# Altium footprint library BGA (1.5mm Pitch, Square4).PcbLib: 12 footprints (part 4 of 4)
Each footprint in its own frame and in the unit in brackets; x right, y up, seen from the top. Pads: shape width x height; smd on the part's side, far side on the other; paste and mask are expansions set on the pad; w line width, h text height; cw(c..) or ccw(c..) is an arc to the next point about the centre after c.
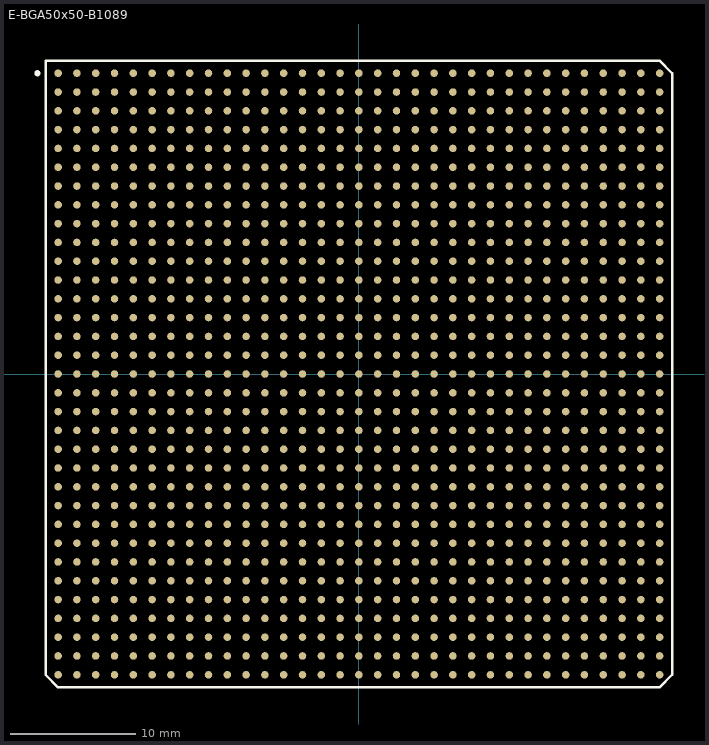
[diagram p3: the footprint, top view; thin cyan lines are the x and y axes]

## E-BGA50x50-B1089 [mm] "BGA; 1089 Balls; Body 50 x 50 mm; Pitch 1.5 mm"
height 3.5
pads (1089):
  round 0.6 smd: A1(-24,24) A2(-22.5,24) A3(-21,24) A4(-19.5,24) A5(-18,24) A6(-16.5,24) A7(-15,24) A8(-13.5,24) A9(-12,24) A10(-10.5,24) A11(-9,24) A12(-7.5,24) A13(-6,24) A14(-4.5,24) A15(-3,24) A16(-1.5,24) A17(0,24) A18(1.5,24) A19(3,24) A20(4.5,24) A21(6,24) A22(7.5,24) A23(9,24) A24(10.5,24) A25(12,24) A26(13.5,24) A27(15,24) A28(16.5,24) A29(18,24) A30(19.5,24) A31(21,24) A32(22.5,24) A33(24,24) AA1(-24,-6) AA2(-22.5,-6) AA3(-21,-6) AA4(-19.5,-6) AA5(-18,-6) AA6(-16.5,-6) AA7(-15,-6) AA8(-13.5,-6) AA9(-12,-6) AA10(-10.5,-6) AA11(-9,-6) AA12(-7.5,-6) AA13(-6,-6) AA14(-4.5,-6) AA15(-3,-6) AA16(-1.5,-6) AA17(0,-6) AA18(1.5,-6) AA19(3,-6) AA20(4.5,-6) AA21(6,-6) AA22(7.5,-6) AA23(9,-6) AA24(10.5,-6) AA25(12,-6) AA26(13.5,-6) AA27(15,-6) AA28(16.5,-6) AA29(18,-6) AA30(19.5,-6) AA31(21,-6) AA32(22.5,-6) AA33(24,-6) AB1(-24,-7.5) AB2(-22.5,-7.5) AB3(-21,-7.5) AB4(-19.5,-7.5) AB5(-18,-7.5) AB6(-16.5,-7.5) AB7(-15,-7.5) AB8(-13.5,-7.5) AB9(-12,-7.5) AB10(-10.5,-7.5) AB11(-9,-7.5) AB12(-7.5,-7.5) AB13(-6,-7.5) AB14(-4.5,-7.5) AB15(-3,-7.5) AB16(-1.5,-7.5) AB17(0,-7.5) AB18(1.5,-7.5) AB19(3,-7.5) AB20(4.5,-7.5) AB21(6,-7.5) AB22(7.5,-7.5) AB23(9,-7.5) AB24(10.5,-7.5) AB25(12,-7.5) AB26(13.5,-7.5) AB27(15,-7.5) AB28(16.5,-7.5) AB29(18,-7.5) AB30(19.5,-7.5) AB31(21,-7.5) AB32(22.5,-7.5) AB33(24,-7.5) AC1(-24,-9) AC2(-22.5,-9) AC3(-21,-9) AC4(-19.5,-9) AC5(-18,-9) AC6(-16.5,-9) AC7(-15,-9) AC8(-13.5,-9) AC9(-12,-9) AC10(-10.5,-9) AC11(-9,-9) AC12(-7.5,-9) AC13(-6,-9) AC14(-4.5,-9) AC15(-3,-9) AC16(-1.5,-9) AC17(0,-9) AC18(1.5,-9) AC19(3,-9) AC20(4.5,-9) AC21(6,-9) AC22(7.5,-9) AC23(9,-9) AC24(10.5,-9) AC25(12,-9) AC26(13.5,-9) AC27(15,-9) AC28(16.5,-9) AC29(18,-9) AC30(19.5,-9) AC31(21,-9) AC32(22.5,-9) AC33(24,-9) AD1(-24,-10.5) AD2(-22.5,-10.5) AD3(-21,-10.5) AD4(-19.5,-10.5) AD5(-18,-10.5) AD6(-16.5,-10.5) AD7(-15,-10.5) AD8(-13.5,-10.5) AD9(-12,-10.5) AD10(-10.5,-10.5) AD11(-9,-10.5) AD12(-7.5,-10.5) AD13(-6,-10.5) AD14(-4.5,-10.5) AD15(-3,-10.5) AD16(-1.5,-10.5) AD17(0,-10.5) AD18(1.5,-10.5) AD19(3,-10.5) AD20(4.5,-10.5) AD21(6,-10.5) AD22(7.5,-10.5) AD23(9,-10.5) AD24(10.5,-10.5) AD25(12,-10.5) AD26(13.5,-10.5) AD27(15,-10.5) AD28(16.5,-10.5) AD29(18,-10.5) AD30(19.5,-10.5) AD31(21,-10.5) AD32(22.5,-10.5) AD33(24,-10.5) AE1(-24,-12) AE2(-22.5,-12) AE3(-21,-12) AE4(-19.5,-12) AE5(-18,-12) AE6(-16.5,-12) AE7(-15,-12) AE8(-13.5,-12) AE9(-12,-12) AE10(-10.5,-12) AE11(-9,-12) AE12(-7.5,-12) AE13(-6,-12) AE14(-4.5,-12) AE15(-3,-12) AE16(-1.5,-12) AE17(0,-12) AE18(1.5,-12) AE19(3,-12) AE20(4.5,-12) AE21(6,-12) AE22(7.5,-12) AE23(9,-12) AE24(10.5,-12) AE25(12,-12) AE26(13.5,-12) AE27(15,-12) AE28(16.5,-12) AE29(18,-12) AE30(19.5,-12) AE31(21,-12) AE32(22.5,-12) AE33(24,-12) AF1(-24,-13.5) AF2(-22.5,-13.5) AF3(-21,-13.5) AF4(-19.5,-13.5) AF5(-18,-13.5) AF6(-16.5,-13.5) AF7(-15,-13.5) AF8(-13.5,-13.5) AF9(-12,-13.5) AF10(-10.5,-13.5) AF11(-9,-13.5) AF12(-7.5,-13.5) AF13(-6,-13.5) AF14(-4.5,-13.5) AF15(-3,-13.5) AF16(-1.5,-13.5) AF17(0,-13.5) AF18(1.5,-13.5) AF19(3,-13.5) AF20(4.5,-13.5) AF21(6,-13.5) AF22(7.5,-13.5) AF23(9,-13.5) AF24(10.5,-13.5) AF25(12,-13.5) AF26(13.5,-13.5) AF27(15,-13.5) AF28(16.5,-13.5) AF29(18,-13.5) AF30(19.5,-13.5) AF31(21,-13.5) AF32(22.5,-13.5) AF33(24,-13.5) AG1(-24,-15) AG2(-22.5,-15) AG3(-21,-15) AG4(-19.5,-15) AG5(-18,-15) AG6(-16.5,-15) AG7(-15,-15) AG8(-13.5,-15) AG9(-12,-15) AG10(-10.5,-15) AG11(-9,-15) AG12(-7.5,-15) AG13(-6,-15) AG14(-4.5,-15) AG15(-3,-15) AG16(-1.5,-15) AG17(0,-15) AG18(1.5,-15) AG19(3,-15) AG20(4.5,-15) AG21(6,-15) AG22(7.5,-15) AG23(9,-15) AG24(10.5,-15) AG25(12,-15) AG26(13.5,-15) AG27(15,-15) AG28(16.5,-15) AG29(18,-15) AG30(19.5,-15) AG31(21,-15) AG32(22.5,-15) AG33(24,-15) AH1(-24,-16.5) AH2(-22.5,-16.5) AH3(-21,-16.5) AH4(-19.5,-16.5) AH5(-18,-16.5) AH6(-16.5,-16.5) AH7(-15,-16.5) AH8(-13.5,-16.5) AH9(-12,-16.5) AH10(-10.5,-16.5) AH11(-9,-16.5) AH12(-7.5,-16.5) AH13(-6,-16.5) AH14(-4.5,-16.5) AH15(-3,-16.5) AH16(-1.5,-16.5) AH17(0,-16.5) AH18(1.5,-16.5) AH19(3,-16.5) AH20(4.5,-16.5) AH21(6,-16.5) AH22(7.5,-16.5) AH23(9,-16.5) AH24(10.5,-16.5) AH25(12,-16.5) AH26(13.5,-16.5) AH27(15,-16.5) AH28(16.5,-16.5) AH29(18,-16.5) AH30(19.5,-16.5) AH31(21,-16.5) AH32(22.5,-16.5) AH33(24,-16.5) AJ1(-24,-18) AJ2(-22.5,-18) AJ3(-21,-18) AJ4(-19.5,-18) AJ5(-18,-18) AJ6(-16.5,-18) AJ7(-15,-18) AJ8(-13.5,-18) AJ9(-12,-18) AJ10(-10.5,-18) AJ11(-9,-18) AJ12(-7.5,-18) AJ13(-6,-18) AJ14(-4.5,-18) AJ15(-3,-18) AJ16(-1.5,-18) AJ17(0,-18) AJ18(1.5,-18) AJ19(3,-18) AJ20(4.5,-18) AJ21(6,-18) AJ22(7.5,-18) AJ23(9,-18) AJ24(10.5,-18) AJ25(12,-18) AJ26(13.5,-18) AJ27(15,-18) AJ28(16.5,-18) AJ29(18,-18) AJ30(19.5,-18) AJ31(21,-18) AJ32(22.5,-18) AJ33(24,-18) AK1(-24,-19.5) AK2(-22.5,-19.5) AK3(-21,-19.5) AK4(-19.5,-19.5) AK5(-18,-19.5) AK6(-16.5,-19.5) AK7(-15,-19.5) AK8(-13.5,-19.5) AK9(-12,-19.5) AK10(-10.5,-19.5) AK11(-9,-19.5) AK12(-7.5,-19.5) AK13(-6,-19.5) AK14(-4.5,-19.5) AK15(-3,-19.5) AK16(-1.5,-19.5) AK17(0,-19.5) AK18(1.5,-19.5) AK19(3,-19.5) AK20(4.5,-19.5) AK21(6,-19.5) AK22(7.5,-19.5) AK23(9,-19.5) AK24(10.5,-19.5) AK25(12,-19.5) AK26(13.5,-19.5) AK27(15,-19.5) AK28(16.5,-19.5) AK29(18,-19.5) AK30(19.5,-19.5) AK31(21,-19.5) AK32(22.5,-19.5) AK33(24,-19.5) AL1(-24,-21) AL2(-22.5,-21) AL3(-21,-21) AL4(-19.5,-21) AL5(-18,-21) AL6(-16.5,-21) AL7(-15,-21) AL8(-13.5,-21) AL9(-12,-21) AL10(-10.5,-21) AL11(-9,-21) AL12(-7.5,-21) AL13(-6,-21) AL14(-4.5,-21) AL15(-3,-21) AL16(-1.5,-21) AL17(0,-21) AL18(1.5,-21) AL19(3,-21) AL20(4.5,-21) AL21(6,-21) AL22(7.5,-21) AL23(9,-21) AL24(10.5,-21) AL25(12,-21) AL26(13.5,-21) AL27(15,-21) AL28(16.5,-21) AL29(18,-21) AL30(19.5,-21) AL31(21,-21) AL32(22.5,-21) AL33(24,-21) AM1(-24,-22.5) AM2(-22.5,-22.5) AM3(-21,-22.5) AM4(-19.5,-22.5) AM5(-18,-22.5) AM6(-16.5,-22.5) AM7(-15,-22.5) AM8(-13.5,-22.5) AM9(-12,-22.5) AM10(-10.5,-22.5) AM11(-9,-22.5) AM12(-7.5,-22.5) AM13(-6,-22.5) AM14(-4.5,-22.5) AM15(-3,-22.5) AM16(-1.5,-22.5) AM17(0,-22.5) AM18(1.5,-22.5) AM19(3,-22.5) AM20(4.5,-22.5) AM21(6,-22.5) AM22(7.5,-22.5) AM23(9,-22.5) AM24(10.5,-22.5) AM25(12,-22.5) AM26(13.5,-22.5) AM27(15,-22.5) AM28(16.5,-22.5) AM29(18,-22.5) AM30(19.5,-22.5) AM31(21,-22.5) AM32(22.5,-22.5) AM33(24,-22.5) AN1(-24,-24) AN2(-22.5,-24) AN3(-21,-24) AN4(-19.5,-24) AN5(-18,-24) AN6(-16.5,-24) AN7(-15,-24) AN8(-13.5,-24) AN9(-12,-24) AN10(-10.5,-24) AN11(-9,-24) AN12(-7.5,-24) AN13(-6,-24) AN14(-4.5,-24) AN15(-3,-24) AN16(-1.5,-24) AN17(0,-24) AN18(1.5,-24) AN19(3,-24) AN20(4.5,-24) AN21(6,-24) AN22(7.5,-24) AN23(9,-24) AN24(10.5,-24) AN25(12,-24) AN26(13.5,-24) AN27(15,-24) AN28(16.5,-24) AN29(18,-24) AN30(19.5,-24) AN31(21,-24) AN32(22.5,-24) AN33(24,-24) B1(-24,22.5) B2(-22.5,22.5) B3(-21,22.5) B4(-19.5,22.5) B5(-18,22.5) B6(-16.5,22.5) B7(-15,22.5) B8(-13.5,22.5) B9(-12,22.5) B10(-10.5,22.5) B11(-9,22.5) B12(-7.5,22.5) B13(-6,22.5) B14(-4.5,22.5) B15(-3,22.5) B16(-1.5,22.5) B17(0,22.5) B18(1.5,22.5) B19(3,22.5) B20(4.5,22.5) B21(6,22.5) B22(7.5,22.5) B23(9,22.5) B24(10.5,22.5) B25(12,22.5) B26(13.5,22.5) B27(15,22.5) B28(16.5,22.5) B29(18,22.5) B30(19.5,22.5) B31(21,22.5) B32(22.5,22.5) B33(24,22.5) C1(-24,21) C2(-22.5,21) C3(-21,21) C4(-19.5,21) C5(-18,21) C6(-16.5,21) C7(-15,21) C8(-13.5,21) C9(-12,21) C10(-10.5,21) C11(-9,21) C12(-7.5,21) C13(-6,21) C14(-4.5,21) C15(-3,21) C16(-1.5,21) C17(0,21) C18(1.5,21) C19(3,21) C20(4.5,21) C21(6,21) C22(7.5,21) C23(9,21) C24(10.5,21) C25(12,21) C26(13.5,21) C27(15,21) C28(16.5,21) C29(18,21) C30(19.5,21) C31(21,21) C32(22.5,21) C33(24,21) D1(-24,19.5) D2(-22.5,19.5) D3(-21,19.5) D4(-19.5,19.5) D5(-18,19.5) D6(-16.5,19.5) D7(-15,19.5) D8(-13.5,19.5) D9(-12,19.5) D10(-10.5,19.5) D11(-9,19.5) D12(-7.5,19.5) D13(-6,19.5) D14(-4.5,19.5) D15(-3,19.5) D16(-1.5,19.5) D17(0,19.5) D18(1.5,19.5) D19(3,19.5) D20(4.5,19.5) D21(6,19.5) D22(7.5,19.5) D23(9,19.5) D24(10.5,19.5) D25(12,19.5) D26(13.5,19.5) D27(15,19.5) D28(16.5,19.5) D29(18,19.5) D30(19.5,19.5) D31(21,19.5) D32(22.5,19.5) D33(24,19.5) E1(-24,18) E2(-22.5,18) E3(-21,18) E4(-19.5,18) E5(-18,18) E6(-16.5,18) E7(-15,18) E8(-13.5,18) E9(-12,18) E10(-10.5,18) E11(-9,18) E12(-7.5,18) E13(-6,18) E14(-4.5,18) E15(-3,18) E16(-1.5,18) E17(0,18) E18(1.5,18) E19(3,18) E20(4.5,18) E21(6,18) E22(7.5,18) E23(9,18) E24(10.5,18) E25(12,18) E26(13.5,18) E27(15,18) E28(16.5,18) E29(18,18) E30(19.5,18) E31(21,18) E32(22.5,18) E33(24,18) F1(-24,16.5) F2(-22.5,16.5) F3(-21,16.5) F4(-19.5,16.5) F5(-18,16.5) F6(-16.5,16.5) F7(-15,16.5) F8(-13.5,16.5) F9(-12,16.5) F10(-10.5,16.5) F11(-9,16.5) F12(-7.5,16.5) F13(-6,16.5) F14(-4.5,16.5) F15(-3,16.5) F16(-1.5,16.5) F17(0,16.5) F18(1.5,16.5) F19(3,16.5) F20(4.5,16.5) F21(6,16.5) F22(7.5,16.5) F23(9,16.5) F24(10.5,16.5) F25(12,16.5) F26(13.5,16.5) F27(15,16.5) F28(16.5,16.5) F29(18,16.5) F30(19.5,16.5) F31(21,16.5) F32(22.5,16.5) F33(24,16.5) G1(-24,15) G2(-22.5,15) G3(-21,15) G4(-19.5,15) G5(-18,15) G6(-16.5,15) G7(-15,15) G8(-13.5,15) G9(-12,15) G10(-10.5,15) G11(-9,15) G12(-7.5,15) G13(-6,15) G14(-4.5,15) G15(-3,15) G16(-1.5,15) G17(0,15) G18(1.5,15) G19(3,15) G20(4.5,15) G21(6,15) G22(7.5,15) G23(9,15) G24(10.5,15) G25(12,15) G26(13.5,15) G27(15,15) G28(16.5,15) G29(18,15) G30(19.5,15) G31(21,15) G32(22.5,15) G33(24,15) H1(-24,13.5) H2(-22.5,13.5) H3(-21,13.5) H4(-19.5,13.5) H5(-18,13.5) H6(-16.5,13.5) H7(-15,13.5) H8(-13.5,13.5) H9(-12,13.5) H10(-10.5,13.5) H11(-9,13.5) H12(-7.5,13.5) H13(-6,13.5) H14(-4.5,13.5) H15(-3,13.5) H16(-1.5,13.5) H17(0,13.5) H18(1.5,13.5) H19(3,13.5) H20(4.5,13.5) H21(6,13.5) H22(7.5,13.5) H23(9,13.5) H24(10.5,13.5) H25(12,13.5) H26(13.5,13.5) H27(15,13.5) H28(16.5,13.5) H29(18,13.5) H30(19.5,13.5) H31(21,13.5) H32(22.5,13.5) H33(24,13.5) J1(-24,12) J2(-22.5,12) J3(-21,12) J4(-19.5,12) J5(-18,12) J6(-16.5,12) J7(-15,12) J8(-13.5,12) J9(-12,12) J10(-10.5,12) J11(-9,12) J12(-7.5,12) J13(-6,12) J14(-4.5,12) J15(-3,12) J16(-1.5,12) J17(0,12) J18(1.5,12) J19(3,12) J20(4.5,12) J21(6,12) J22(7.5,12) J23(9,12) J24(10.5,12) J25(12,12) J26(13.5,12) J27(15,12) J28(16.5,12) J29(18,12) J30(19.5,12) J31(21,12) J32(22.5,12) J33(24,12) K1(-24,10.5) K2(-22.5,10.5) K3(-21,10.5) K4(-19.5,10.5) K5(-18,10.5) K6(-16.5,10.5) K7(-15,10.5) K8(-13.5,10.5) K9(-12,10.5) K10(-10.5,10.5) K11(-9,10.5) K12(-7.5,10.5) K13(-6,10.5) K14(-4.5,10.5) K15(-3,10.5) K16(-1.5,10.5) K17(0,10.5) K18(1.5,10.5) K19(3,10.5) K20(4.5,10.5) K21(6,10.5) K22(7.5,10.5) K23(9,10.5) K24(10.5,10.5) K25(12,10.5) K26(13.5,10.5) K27(15,10.5) K28(16.5,10.5) K29(18,10.5) K30(19.5,10.5) K31(21,10.5) K32(22.5,10.5) K33(24,10.5) L1(-24,9) L2(-22.5,9) L3(-21,9) L4(-19.5,9) L5(-18,9) L6(-16.5,9) L7(-15,9) L8(-13.5,9) L9(-12,9) L10(-10.5,9) L11(-9,9) L12(-7.5,9) L13(-6,9) L14(-4.5,9) L15(-3,9) L16(-1.5,9) L17(0,9) L18(1.5,9) L19(3,9) L20(4.5,9) L21(6,9) L22(7.5,9) L23(9,9) L24(10.5,9) L25(12,9) L26(13.5,9) L27(15,9) L28(16.5,9) L29(18,9) L30(19.5,9) L31(21,9) L32(22.5,9) L33(24,9) M1(-24,7.5) M2(-22.5,7.5) M3(-21,7.5) M4(-19.5,7.5) M5(-18,7.5) M6(-16.5,7.5) M7(-15,7.5) M8(-13.5,7.5) M9(-12,7.5) M10(-10.5,7.5) M11(-9,7.5) M12(-7.5,7.5) M13(-6,7.5) M14(-4.5,7.5) M15(-3,7.5) M16(-1.5,7.5) M17(0,7.5) M18(1.5,7.5) M19(3,7.5) M20(4.5,7.5) M21(6,7.5) M22(7.5,7.5) M23(9,7.5) M24(10.5,7.5) M25(12,7.5) M26(13.5,7.5) M27(15,7.5) M28(16.5,7.5) M29(18,7.5) M30(19.5,7.5) M31(21,7.5) M32(22.5,7.5) M33(24,7.5) N1(-24,6) N2(-22.5,6) N3(-21,6) N4(-19.5,6) N5(-18,6) N6(-16.5,6) N7(-15,6) N8(-13.5,6) N9(-12,6) N10(-10.5,6) N11(-9,6) N12(-7.5,6) N13(-6,6) N14(-4.5,6) N15(-3,6) N16(-1.5,6) N17(0,6) N18(1.5,6) N19(3,6) N20(4.5,6) N21(6,6) N22(7.5,6) N23(9,6) N24(10.5,6) N25(12,6) N26(13.5,6) N27(15,6) N28(16.5,6) N29(18,6) N30(19.5,6) N31(21,6) N32(22.5,6) N33(24,6) P1(-24,4.5) P2(-22.5,4.5) P3(-21,4.5) P4(-19.5,4.5) P5(-18,4.5) P6(-16.5,4.5) P7(-15,4.5) P8(-13.5,4.5) P9(-12,4.5) P10(-10.5,4.5) P11(-9,4.5) P12(-7.5,4.5) P13(-6,4.5) P14(-4.5,4.5) P15(-3,4.5) P16(-1.5,4.5) P17(0,4.5) P18(1.5,4.5) P19(3,4.5) P20(4.5,4.5) P21(6,4.5) P22(7.5,4.5) P23(9,4.5) P24(10.5,4.5) P25(12,4.5) P26(13.5,4.5) P27(15,4.5) P28(16.5,4.5) P29(18,4.5) P30(19.5,4.5) P31(21,4.5) P32(22.5,4.5) P33(24,4.5) R1(-24,3) R2(-22.5,3) R3(-21,3) R4(-19.5,3) R5(-18,3) R6(-16.5,3) R7(-15,3) R8(-13.5,3) R9(-12,3) R10(-10.5,3) R11(-9,3) R12(-7.5,3) R13(-6,3) R14(-4.5,3) R15(-3,3) R16(-1.5,3) R17(0,3) R18(1.5,3) R19(3,3) R20(4.5,3) R21(6,3) R22(7.5,3) R23(9,3) R24(10.5,3) R25(12,3) R26(13.5,3) R27(15,3) R28(16.5,3) R29(18,3) R30(19.5,3) R31(21,3) R32(22.5,3) R33(24,3) T1(-24,1.5) T2(-22.5,1.5) T3(-21,1.5) T4(-19.5,1.5) T5(-18,1.5) T6(-16.5,1.5) T7(-15,1.5) T8(-13.5,1.5) T9(-12,1.5) T10(-10.5,1.5) T11(-9,1.5) T12(-7.5,1.5) T13(-6,1.5) T14(-4.5,1.5) T15(-3,1.5) T16(-1.5,1.5) T17(0,1.5) T18(1.5,1.5) T19(3,1.5) T20(4.5,1.5) T21(6,1.5) T22(7.5,1.5) T23(9,1.5) T24(10.5,1.5) T25(12,1.5) T26(13.5,1.5) T27(15,1.5) T28(16.5,1.5) T29(18,1.5) T30(19.5,1.5) T31(21,1.5) T32(22.5,1.5) T33(24,1.5) U1(-24,0) U2(-22.5,0) U3(-21,0) U4(-19.5,0) U5(-18,0) U6(-16.5,0) U7(-15,0) U8(-13.5,0) U9(-12,0) U10(-10.5,0) U11(-9,0) U12(-7.5,0) U13(-6,0) U14(-4.5,0) U15(-3,0) U16(-1.5,0) U17(0,0) U18(1.5,0) U19(3,0) U20(4.5,0) U21(6,0) U22(7.5,0) U23(9,0) U24(10.5,0) U25(12,0) U26(13.5,0) U27(15,0) U28(16.5,0) U29(18,0) U30(19.5,0) U31(21,0) U32(22.5,0) U33(24,0) V1(-24,-1.5) V2(-22.5,-1.5) V3(-21,-1.5) V4(-19.5,-1.5) V5(-18,-1.5) V6(-16.5,-1.5) V7(-15,-1.5) V8(-13.5,-1.5) V9(-12,-1.5) V10(-10.5,-1.5) V11(-9,-1.5) V12(-7.5,-1.5) V13(-6,-1.5) V14(-4.5,-1.5) V15(-3,-1.5) V16(-1.5,-1.5) V17(0,-1.5) V18(1.5,-1.5) V19(3,-1.5) V20(4.5,-1.5) V21(6,-1.5) V22(7.5,-1.5) V23(9,-1.5) V24(10.5,-1.5) V25(12,-1.5) V26(13.5,-1.5) V27(15,-1.5) V28(16.5,-1.5) V29(18,-1.5) V30(19.5,-1.5) V31(21,-1.5) V32(22.5,-1.5) V33(24,-1.5) W1(-24,-3) W2(-22.5,-3) W3(-21,-3) W4(-19.5,-3) W5(-18,-3) W6(-16.5,-3) W7(-15,-3) W8(-13.5,-3) W9(-12,-3) W10(-10.5,-3) W11(-9,-3) W12(-7.5,-3) W13(-6,-3) W14(-4.5,-3) W15(-3,-3) W16(-1.5,-3) W17(0,-3) W18(1.5,-3) W19(3,-3) W20(4.5,-3) W21(6,-3) W22(7.5,-3) W23(9,-3) W24(10.5,-3) W25(12,-3) W26(13.5,-3) W27(15,-3) W28(16.5,-3) W29(18,-3) W30(19.5,-3) W31(21,-3) W32(22.5,-3) W33(24,-3) Y1(-24,-4.5) Y2(-22.5,-4.5) Y3(-21,-4.5) Y4(-19.5,-4.5) Y5(-18,-4.5) Y6(-16.5,-4.5) Y7(-15,-4.5) Y8(-13.5,-4.5) Y9(-12,-4.5) Y10(-10.5,-4.5) Y11(-9,-4.5) Y12(-7.5,-4.5) Y13(-6,-4.5) Y14(-4.5,-4.5) Y15(-3,-4.5) Y16(-1.5,-4.5) Y17(0,-4.5) Y18(1.5,-4.5) Y19(3,-4.5) Y20(4.5,-4.5) Y21(6,-4.5) Y22(7.5,-4.5) Y23(9,-4.5) Y24(10.5,-4.5) Y25(12,-4.5) Y26(13.5,-4.5) Y27(15,-4.5) Y28(16.5,-4.5) Y29(18,-4.5) Y30(19.5,-4.5) Y31(21,-4.5) Y32(22.5,-4.5) Y33(24,-4.5)
Top Overlay:
  circle w0.25: c-25.655,24 r0.125
  lines w0.2: -25,-24 -24,-25 24,-25 25,-24 25,24 24,25 -25,25 -25,-24